# EAGLE library part USB-A-TH-UP-SIDE (library USB Connector)
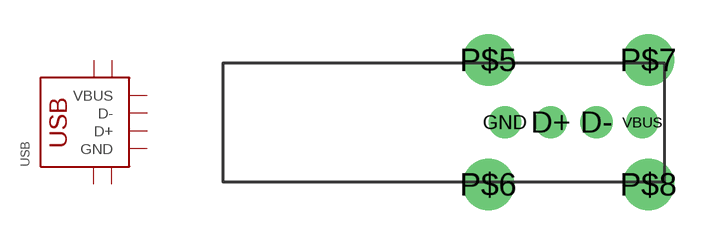
[diagram p2: symbol with the pads of USB-A-TH-UP-SIDE; footprint USB-A-TH-UP-SIDE]

Designator prefix USB

## USB-A-TH-UP-SIDE  [USB-A-TH-UP-SIDE]
D+  D+
D-  D-
GND  GND
P$5  SHIELD
P$6  SHIELD
P$7  SHIELD
P$8  SHIELD
VBUS  VBUS

## Footprint USB-A-TH-UP-SIDE (pad centres in mm)
USB Series A Hole Mounted Up-Right
drill 0.9: D+ 2.73,0; D- 4.73,0; GND 0.73,0; VBUS 6.73,0
drill 1.5: P$5 0,2.72; P$6 0,-2.72; P$7 7,2.72; P$8 7,-2.72